# Altium schematic symbol library SGM2268.SchLib: 1 symbol
Pins are listed as number, name and electrical type; pins without a type are passive.

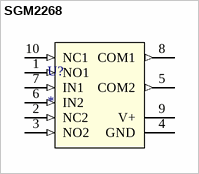
[diagram p0: symbol SGM2268]

## SGM2268
designator U?
pins: 1 NO1 (in), 2 NC2 (in), 3 NO2 (in), 4 GND (power), 5 COM2 (out), 6 IN2 (in), 7 IN1 (in), 8 COM1 (out), 9 V+ (power), 10 NC1 (in)